# EAGLE library part CD4044BE (library RS-parts)
Latch
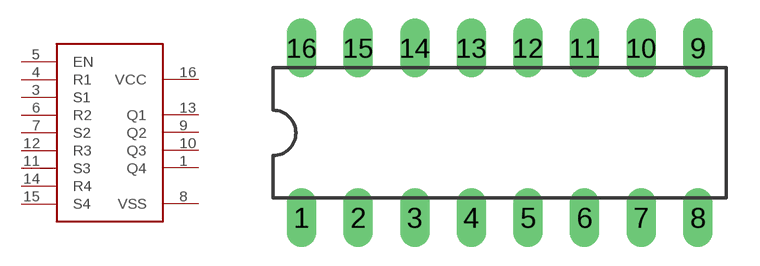
[diagram p1: symbol with the pads of DIL16; footprint DIL16]

Designator prefix -

## CD4044BE  [DIL16]
1  Q4
3  S1
4  R1
5  EN
6  R2
7  S2
8  VSS
9  Q2
10  Q3
11  S3
12  R3
13  Q1
14  R4
15  S4
16  VCC

## Footprint DIL16 (pad centres in mm)
Dual In Line Package
drill 0.813 long: 1 -8.89,-3.81; 2 -6.35,-3.81; 3 -3.81,-3.81; 4 -1.27,-3.81; 5 1.27,-3.81; 6 3.81,-3.81; 7 6.35,-3.81; 8 8.89,-3.81; 9 8.89,3.81; 10 6.35,3.81; 11 3.81,3.81; 12 1.27,3.81; 13 -1.27,3.81; 14 -3.81,3.81; 15 -6.35,3.81; 16 -8.89,3.81